# Altium schematic symbol library DF636P396DSA.SchLib: 1 symbol
Pins are listed as number, name and electrical type; pins without a type are passive.

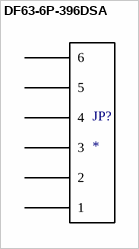
[diagram p0: symbol DF63-6P-396DSA]

## DF63-6P-396DSA
designator JP?
PartNumber: DF63-6P-3.96DSA; Manufacturer: Hirose Electric Co Ltd; PartDescription: CONN HEADER VERT 6POS 3.96MM; Supplier 1: Digi-Key; Supplier Part Number 1: H124965-ND; Package Type: 6 TH
footprint DF63-6P-39DSA
pins: 1, 2, 3, 4, 5, 6